# Altium footprint library __ui.PcbLib: 79 footprints (part 2 of 5)
Each footprint in its own frame and in the unit in brackets; x right, y up, seen from the top. Pads: shape width x height; smd on the part's side, far side on the other; paste and mask are expansions set on the pad; w line width, h text height; cw(c..) or ccw(c..) is an arc to the next point about the centre after c.
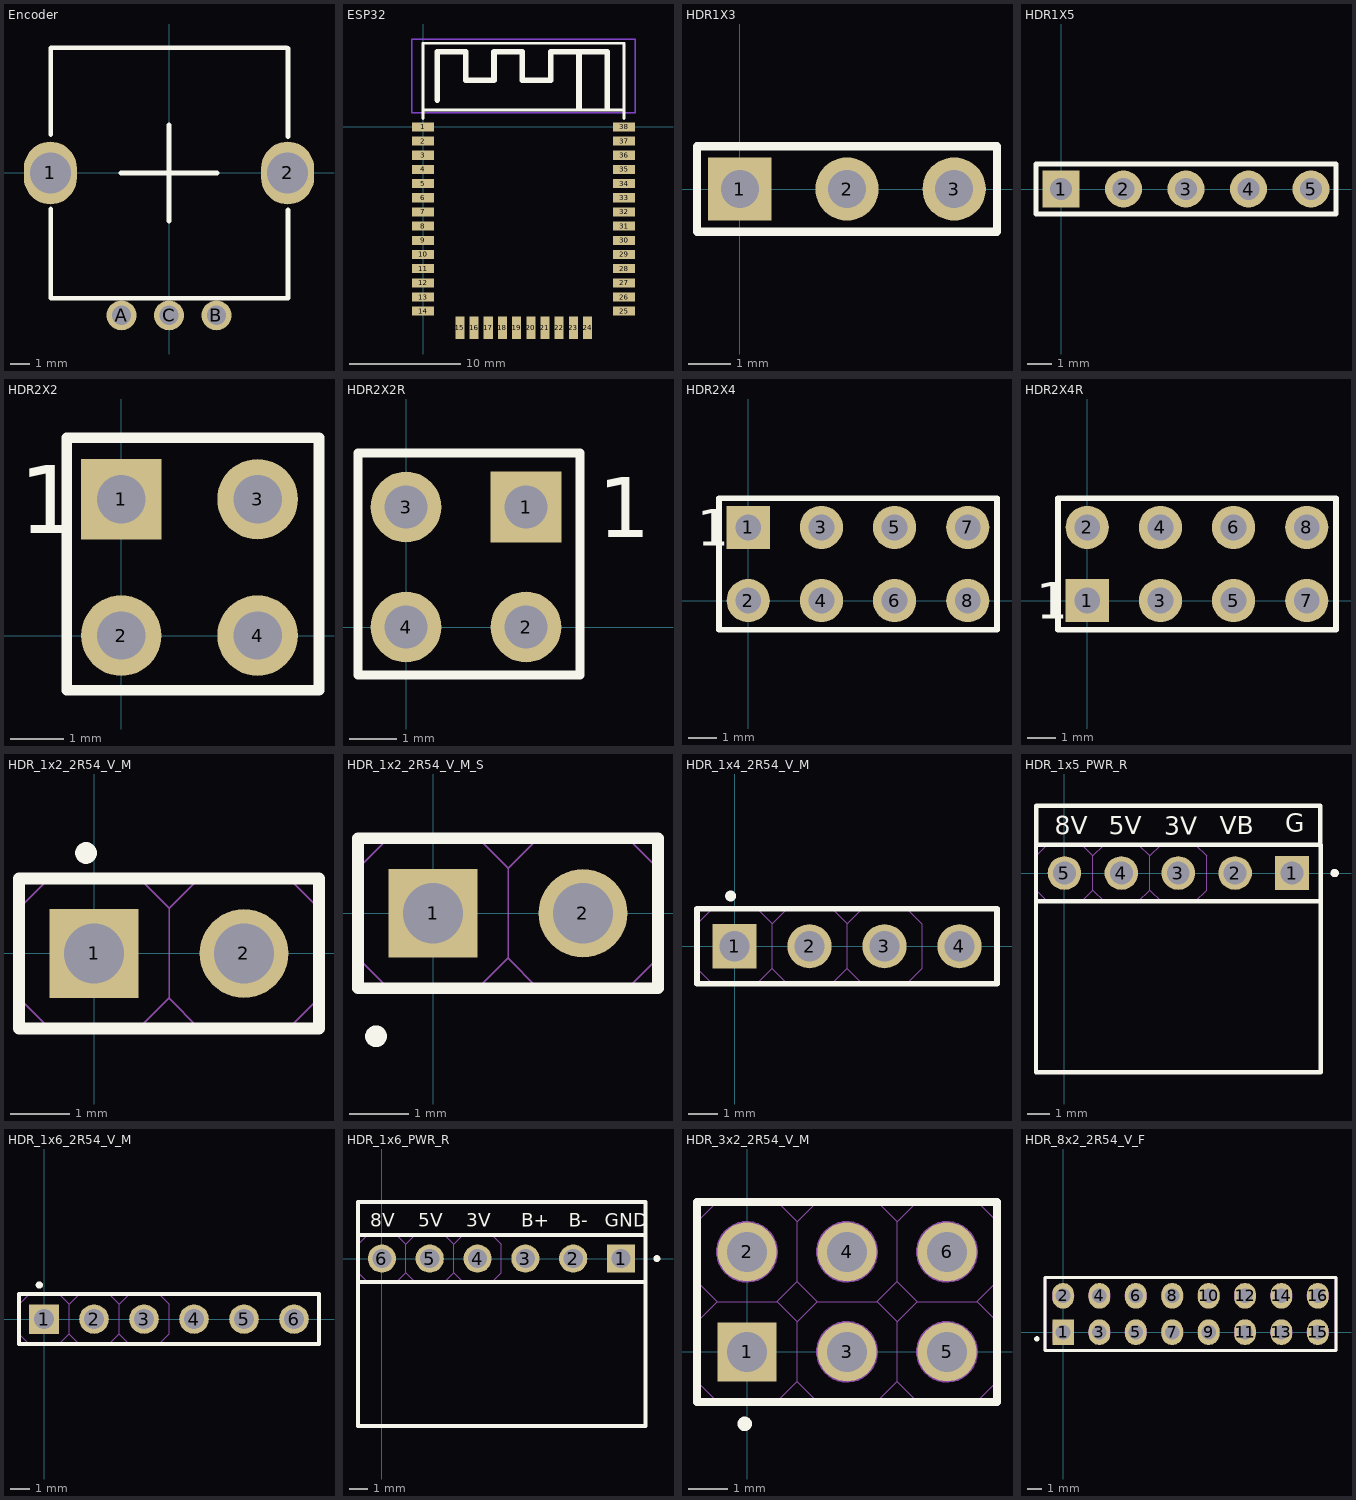
[diagram p1: the footprints below, top view; thin cyan lines are the x and y axes]

## Encoder [mil] "Alps Rotary Encoder"
pads (5):
  oval 110.24x130 hole 85: 1(-246.06,0) 2(246.06,0)
  round 62 hole 40: A(-98.43,-295.28) B(98.43,-295.28) C(0,-295.28)
Top Overlay:
  lines w10: -245.06,-257.8 -245.06,-75 ; -245.06,80 -245.06,257.2 ; -245,-259.84 244.09,-259.84 ; -245,259.84 244.09,259.84 ; -100,0 100,0 ; 0,-100 0,100 ; 246.78,-259.78 246.78,-76.97 ; 246.78,75.22 246.78,258.03

## ESP32 [mm]
pads (38):
  rect 2x0.813 smd: 1(0,0) 2(0,-1.27) 3(0,-2.54) 4(0,-3.81) 5(0,-5.08) 6(0,-6.35) 7(0,-7.62) 8(0,-8.89) 9(0,-10.16) 10(0,-11.43) 11(0,-12.7) 12(0,-13.97) 13(0,-15.24) 14(0,-16.51) 25(18,-16.51) 26(18,-15.24) 27(18,-13.97) 28(18,-12.7) 29(18,-11.43) 30(18,-10.16) 31(18,-8.89) 32(18,-7.62) 33(18,-6.35) 34(18,-5.08) 35(18,-3.81) 36(18,-2.54) 37(18,-1.27) 38(18,0)
  rect 0.813x2 smd: 15(3.3,-18) 16(4.57,-18) 17(5.84,-18) 18(7.11,-18) 19(8.38,-18) 20(9.65,-18) 21(10.92,-18) 22(12.19,-18) 23(13.46,-18) 24(14.73,-18)
Top Layer keep-out:
  lines w0.127: -1.016,1.27 -1.016,7.874 19.024,7.866 19.024,1.262 -1.016,1.27
Bottom Layer keep-out:
  lines w0.127: -1.017,1.27 19.024,1.262 19.024,7.866 -1.016,7.874 -1.017,1.27
Top Overlay:
  lines w0.254: 0,0.762 0,1.5 ; 18,0.762 18,1.5 ; 0,1.5 0,7.5 18,7.5 18,1.5 ; 0,1.5 18,1.5
  lines w0.508: 1.27,2.413 1.27,6.731 3.81,6.731 3.81,4.191 6.35,4.191 6.35,6.731 8.89,6.731 8.89,4.191 11.43,4.191 11.43,6.731 13.97,6.731 ; 13.97,1.651 13.97,6.731 ; 16.51,1.651 16.51,6.731 13.97,6.731
Keep-Out Layer:
  region: -3.81,6.985

## HDR1X3 [mm] "Connector; Header; 3 Position"
pads (3):
  rect 1.5x1.5 hole 0.9: 1(0,0)
  round 1.5 hole 0.9: 2(2.54,0) 3(5.08,0)
Top Overlay:
  lines w0.2: -1.016,-1.016 6.096,-1.016 6.096,1.016 -1.016,1.016 -1.016,-1.016

## HDR1X5 [mm] "Connector; Header; 5 Position"
pads (5):
  rect 1.5x1.5 hole 0.9: 1(0,0)
  round 1.5 hole 0.9: 2(2.54,0) 3(5.08,0) 4(7.62,0) 5(10.16,0)
Top Overlay:
  lines w0.2: -1.016,-1.016 -1.016,1.016 11.176,1.016 11.176,-1.016 -1.016,-1.016

## HDR2X2 [mm] "Connector; Header; 2x2 Position"
pads (4):
  rect 1.5x1.5 hole 0.9: 1(0,2.54)
  round 1.5 hole 0.9: 2(0,0) 3(2.54,2.54) 4(2.54,0)
Top Overlay:
  lines w0.2: -1.016,-1.016 -1.016,3.683 3.683,3.683 3.683,-1.016 -1.016,-1.016
  text "1" at -1.905,1.905 h1.27

## HDR2X2R [mm] "Connector; Header; 2x2 Position"
pads (4):
  rect 1.5x1.5 hole 0.9: 1(2.54,2.54)
  round 1.5 hole 0.9: 2(2.54,0) 3(0,2.54) 4(0,0)
Top Overlay:
  lines w0.2: -1.016,-1.016 3.683,-1.016 3.683,3.683 -1.016,3.683 -1.016,-1.016
  text "1" at 4.064,1.905 h1.27

## HDR2X4 [mm] "Connector; Header; 4x2 Position"
pads (8):
  rect 1.5x1.5 hole 0.9: 1(0,2.54)
  round 1.5 hole 0.9: 2(0,0) 3(2.54,2.54) 4(2.54,0) 5(5.08,2.54) 6(5.08,0) 7(7.62,2.54) 8(7.62,0)
Top Overlay:
  lines w0.2: -1.016,-1.016 -1.016,3.556 8.636,3.556 8.636,-1.016 -1.016,-1.016
  text "1" at -1.778,1.905 h1.27

## HDR2X4R [mm] "Connector; Header; 4x2 Position"
pads (8):
  rect 1.5x1.5 hole 0.9: 1(0,0)
  round 1.5 hole 0.9: 2(0,2.54) 3(2.54,0) 4(2.54,2.54) 5(5.08,0) 6(5.08,2.54) 7(7.62,0) 8(7.62,2.54)
Top Overlay:
  lines w0.2: -1.016,-1.016 8.636,-1.016 8.636,3.556 -1.016,3.556 -1.016,-1.016
  text "1" at -1.778,-0.635 h1.27

## HDR_1x2_2R54_V_M [mm] "Male Header, Pitch 2.54mm, 4x1 Position, Mated Height 6mm, Tail Length 3mm"
height 6
pads (2):
  rect 1.5x1.5 hole 1.02: 1(0,0)
  round 1.5 hole 1.02: 2(2.54,0)
Top Overlay:
  circle w0.25: c-0.135,1.702 r0.059
  lines w0.2: -1.27,-1.27 -1.27,1.27 3.81,1.27 3.81,-1.27 -1.27,-1.27
Mechanical 13:
  lines w0.025: 3.81,-0.762 3.302,-1.27 ; 3.81,0.762 3.302,1.27 1.778,1.27 1.27,0.762 ; -1.27,-0.762 -1.27,0.762 ; -1.27,-0.762 -1.27,0.762 ; -1.27,-0.762 -0.762,-1.27 ; -1.27,0.762 -0.762,1.27 0.762,1.27 1.27,0.762 ; -0.762,-1.27 0.762,-1.27 ; -0.762,-1.27 0.762,-1.27 ; 0.762,-1.27 1.27,-0.762 ; 1.27,-0.762 1.27,0.762 ; 1.27,-0.762 1.27,0.762 ; 1.27,-0.762 1.27,0.762 ; 1.27,-0.762 1.27,0.762 ; 1.27,-0.762 1.778,-1.27 ; 1.778,-1.27 3.302,-1.27 ; 1.778,-1.27 3.302,-1.27
3D body: height 2.54, standoff 0, extent -1.27,-1.27 1.27,1.27
3D body: height 9, standoff -10, extent -0.35,-0.349 0.347,0.349
3D body: height 2.54, standoff 0, extent 1.27,-1.27 3.81,1.27
3D body: height 9, standoff -10, extent 2.19,-0.349 2.887,0.349

## HDR_1x2_2R54_V_M_S [mm] "Male Header, Pitch 2.54mm, 4x1 Position, Mated Height 6mm, Tail Length 3mm"
height 6
pads (2):
  rect 1.5x1.5 hole 1.02: 1(0,0)
  round 1.5 hole 1.02: 2(2.54,0)
Top Overlay:
  circle w0.25: c-0.965,-2.083 r0.059
  lines w0.2: -1.27,-1.27 -1.27,1.27 3.81,1.27 3.81,-1.27 -1.27,-1.27
Mechanical 13:
  lines w0.025: 3.81,-0.762 3.302,-1.27 ; 3.81,0.762 3.302,1.27 1.778,1.27 1.27,0.762 ; -1.27,-0.762 -1.27,0.762 ; -1.27,-0.762 -1.27,0.762 ; -1.27,-0.762 -0.762,-1.27 ; -1.27,0.762 -0.762,1.27 0.762,1.27 1.27,0.762 ; -0.762,-1.27 0.762,-1.27 ; -0.762,-1.27 0.762,-1.27 ; 0.762,-1.27 1.27,-0.762 ; 1.27,-0.762 1.27,0.762 ; 1.27,-0.762 1.27,0.762 ; 1.27,-0.762 1.27,0.762 ; 1.27,-0.762 1.27,0.762 ; 1.27,-0.762 1.778,-1.27 ; 1.778,-1.27 3.302,-1.27 ; 1.778,-1.27 3.302,-1.27
3D body: height 2.54, standoff 0, extent -1.27,-1.27 1.27,1.27
3D body: height 9, standoff -3, extent -0.35,-0.349 0.347,0.349
3D body: height 2.54, standoff 0, extent 1.27,-1.27 3.81,1.27
3D body: height 9, standoff -3, extent 2.19,-0.349 2.887,0.349

## HDR_1x4_2R54_V_M [mm] "Male Header, Pitch 2.54mm, 4x1 Position, Mated Height 6mm, Tail Length 3mm"
height 6
pads (4):
  rect 1.5x1.5 hole 1.02: 1(0,0)
  round 1.5 hole 1.02: 2(2.54,0) 3(5.08,0) 4(7.62,0)
Top Overlay:
  circle w0.25: c-0.135,1.702 r0.059
  lines w0.2: 8.865,1.27 -1.27,1.27 -1.27,-1.27 8.89,-1.27 8.89,1.27
Mechanical 13:
  lines w0.025: -1.27,-0.762 -0.762,-1.27 ; -1.27,-0.762 -1.27,0.762 ; -1.27,-0.762 -1.27,0.762 ; -1.27,0.762 -0.762,1.27 0.762,1.27 1.27,0.762 ; -0.762,-1.27 0.762,-1.27 ; -0.762,-1.27 0.762,-1.27 ; 0.762,-1.27 1.27,-0.762 ; 1.27,-0.762 1.778,-1.27 ; 1.27,-0.762 1.27,0.762 ; 1.27,-0.762 1.27,0.762 ; 1.27,-0.762 1.27,0.762 ; 1.27,-0.762 1.27,0.762 ; 1.27,0.762 1.778,1.27 3.302,1.27 3.81,0.762 ; 1.778,-1.27 3.302,-1.27 ; 1.778,-1.27 3.302,-1.27 ; 3.302,-1.27 3.81,-0.762 ; 3.81,-0.762 4.318,-1.27 ; 3.81,-0.762 3.81,0.762 ; 3.81,-0.762 3.81,0.762 ; 3.81,-0.762 3.81,0.762 ; 3.81,-0.762 3.81,0.762 ; 3.81,0.762 4.318,1.27 5.842,1.27 6.35,0.762 ; 4.318,-1.27 5.842,-1.27 ; 4.318,-1.27 5.842,-1.27 ; 5.842,-1.27 6.35,-0.762 ; 6.35,-0.762 6.35,0.762 ; 6.35,-0.762 6.35,0.762
3D body: height 2.54, standoff 0, extent 6.35,-1.27 8.89,1.27
3D body: height 9, standoff -2.54, extent 7.27,-0.349 7.967,0.349
3D body: height 9, standoff -2.54, extent 4.73,-0.349 5.427,0.349
3D body: height 2.54, standoff 0, extent 3.81,-1.27 6.35,1.27
3D body: height 9, standoff -2.54, extent 2.19,-0.349 2.887,0.349
3D body: height 2.54, standoff 0, extent 1.27,-1.27 3.81,1.27
3D body: height 9, standoff -2.54, extent -0.35,-0.349 0.347,0.349
3D body: height 2.54, standoff 0, extent -1.27,-1.27 1.27,1.27

## HDR_1x5_PWR_R [mm] "Male Header, Pitch 2.54mm, 5x1 Position, 90deg"
height 6
pads (5):
  rect 1.5x1.5 hole 1.02: 1(10.16,0)
  round 1.5 hole 1.02: 2(7.62,0) 3(5.08,0) 4(2.54,0) 5(0,0)
Top Overlay:
  circle w0.25: c12.065,0 r0.059
  lines w0.2: -1.25,1.25 -1.266,1.266 -1.266,3 11.427,3 11.427,1.293 ; 11.43,-1.27 -1.27,-1.27 ; -1.27,-1.27 -1.27,-8.89 11.436,-8.89 11.436,-3.804 11.436,1.27 -1.27,1.27 -1.27,-1.27
  text "VB" at 6.934,1.727 h0.81
  text "3V" at 4.453,1.703 h0.81
  text "5V" at 1.981,1.727 h0.81
  text "8V" at -0.432,1.727 h0.81
  text "G" at 9.855,1.854 h0.81
Mechanical 13:
  lines w0.025: -1.27,-0.762 -0.762,-1.27 ; -1.27,-0.762 -1.27,0.762 ; -1.27,-0.762 -1.27,0.762 ; -1.27,0.762 -0.762,1.27 0.762,1.27 1.27,0.762 ; -0.762,-1.27 0.762,-1.27 ; -0.762,-1.27 0.762,-1.27 ; 0.762,-1.27 1.27,-0.762 ; 1.27,-0.762 1.778,-1.27 ; 1.27,-0.762 1.27,0.762 ; 1.27,-0.762 1.27,0.762 ; 1.27,-0.762 1.27,0.762 ; 1.27,-0.762 1.27,0.762 ; 1.27,0.762 1.778,1.27 3.302,1.27 3.81,0.762 ; 1.778,-1.27 3.302,-1.27 ; 1.778,-1.27 3.302,-1.27 ; 3.302,-1.27 3.81,-0.762 ; 3.81,-0.762 4.318,-1.27 ; 3.81,-0.762 3.81,0.762 ; 3.81,-0.762 3.81,0.762 ; 3.81,-0.762 3.81,0.762 ; 3.81,-0.762 3.81,0.762 ; 3.81,0.762 4.318,1.27 5.842,1.27 6.35,0.762 ; 4.318,-1.27 5.842,-1.27 ; 4.318,-1.27 5.842,-1.27 ; 5.842,-1.27 6.35,-0.762 ; 6.35,-0.762 6.35,0.762 ; 6.35,-0.762 6.35,0.762
3D body: height 2.54, standoff 0, extent 8.89,-1.27 11.43,1.27
3D body: height 9, standoff -2.54, extent 9.81,-0.349 10.507,0.349
3D body: height 2.54, standoff 0, extent 6.35,-1.27 8.89,1.27
3D body: height 9, standoff -2.54, extent 7.27,-0.349 7.967,0.349
3D body: height 9, standoff -2.54, extent 4.73,-0.349 5.427,0.349
3D body: height 2.54, standoff 0, extent 3.81,-1.27 6.35,1.27
3D body: height 9, standoff -2.54, extent 2.19,-0.349 2.887,0.349
3D body: height 2.54, standoff 0, extent 1.27,-1.27 3.81,1.27
3D body: height 9, standoff -2.54, extent -0.35,-0.349 0.347,0.349
3D body: height 2.54, standoff 0, extent -1.27,-1.27 1.27,1.27

## HDR_1x6_2R54_V_M [mm] "Male Header, Pitch 2.54mm, 6x1 Position, Mated Height 6mm, Tail Length 3mm"
height 6
pads (6):
  rect 1.5x1.5 hole 1.02: 1(0,0)
  round 1.5 hole 1.02: 2(2.54,0) 3(5.08,0) 4(7.62,0) 5(10.16,0) 6(12.7,0)
Top Overlay:
  circle w0.25: c-0.236,1.727 r0.059
  lines w0.2: 13.945,-1.27 -1.27,-1.27 -1.27,1.27 13.945,1.27 ; 13.97,-1.27 13.97,1.27
Mechanical 13:
  lines w0.025: -1.27,-0.762 -0.762,-1.27 ; -1.27,-0.762 -1.27,0.762 ; -1.27,-0.762 -1.27,0.762 ; -1.27,0.762 -0.762,1.27 0.762,1.27 1.27,0.762 ; -0.762,-1.27 0.762,-1.27 ; -0.762,-1.27 0.762,-1.27 ; 0.762,-1.27 1.27,-0.762 ; 1.27,-0.762 1.778,-1.27 ; 1.27,-0.762 1.27,0.762 ; 1.27,-0.762 1.27,0.762 ; 1.27,-0.762 1.27,0.762 ; 1.27,-0.762 1.27,0.762 ; 1.27,0.762 1.778,1.27 3.302,1.27 3.81,0.762 ; 1.778,-1.27 3.302,-1.27 ; 1.778,-1.27 3.302,-1.27 ; 3.302,-1.27 3.81,-0.762 ; 3.81,-0.762 4.318,-1.27 ; 3.81,-0.762 3.81,0.762 ; 3.81,-0.762 3.81,0.762 ; 3.81,-0.762 3.81,0.762 ; 3.81,-0.762 3.81,0.762 ; 3.81,0.762 4.318,1.27 5.842,1.27 6.35,0.762 ; 4.318,-1.27 5.842,-1.27 ; 4.318,-1.27 5.842,-1.27 ; 5.842,-1.27 6.35,-0.762 ; 6.35,-0.762 6.35,0.762 ; 6.35,-0.762 6.35,0.762
3D body: height 2.54, standoff 0, extent 11.43,-1.27 13.97,1.27
3D body: height 9, standoff -2.54, extent 12.35,-0.349 13.047,0.349
3D body: height 2.54, standoff 0, extent 8.89,-1.27 11.43,1.27
3D body: height 9, standoff -2.54, extent 9.81,-0.349 10.507,0.349
3D body: height 2.54, standoff 0, extent 6.35,-1.27 8.89,1.27
3D body: height 9, standoff -2.54, extent 7.27,-0.349 7.967,0.349
3D body: height 9, standoff -2.54, extent 4.73,-0.349 5.427,0.349
3D body: height 2.54, standoff 0, extent 3.81,-1.27 6.35,1.27
3D body: height 9, standoff -2.54, extent 2.19,-0.349 2.887,0.349
3D body: height 2.54, standoff 0, extent 1.27,-1.27 3.81,1.27
3D body: height 9, standoff -2.54, extent -0.35,-0.349 0.347,0.349
3D body: height 2.54, standoff 0, extent -1.27,-1.27 1.27,1.27

## HDR_1x6_PWR_R [mm] "Male Header, Pitch 2.54mm, 6x1 Position, 90deg"
height 6
pads (6):
  rect 1.5x1.5 hole 1.02: 1(12.7,0)
  round 1.5 hole 1.02: 2(10.16,0) 3(7.62,0) 4(5.08,0) 5(2.54,0) 6(0,0)
Top Overlay:
  circle w0.25: c14.605,0 r0.059
  lines w0.2: -1.27,-1.25 14,-1.25 ; -1.25,1.25 -1.266,1.266 -1.266,3 14,3 14,1.293 ; -1.27,-8.89 -1.27,-1.27 -1.27,1.25 14,1.25 14,-3.369 14,-8.89 -1.27,-8.89
  text "B-" at 9.931,1.676 h0.71
  text "3V" at 4.47,1.676 h0.71
  text "5V" at 1.93,1.676 h0.71
  text "8V" at -0.61,1.676 h0.71
  text "GND" at 11.836,1.676 h0.71
  text "B+" at 7.391,1.676 h0.71
Mechanical 13:
  lines w0.025: -1.27,-0.762 -0.762,-1.27 ; -1.27,-0.762 -1.27,0.762 ; -1.27,-0.762 -1.27,0.762 ; -1.27,0.762 -0.762,1.27 0.762,1.27 1.27,0.762 ; -0.762,-1.27 0.762,-1.27 ; -0.762,-1.27 0.762,-1.27 ; 0.762,-1.27 1.27,-0.762 ; 1.27,-0.762 1.778,-1.27 ; 1.27,-0.762 1.27,0.762 ; 1.27,-0.762 1.27,0.762 ; 1.27,-0.762 1.27,0.762 ; 1.27,-0.762 1.27,0.762 ; 1.27,0.762 1.778,1.27 3.302,1.27 3.81,0.762 ; 1.778,-1.27 3.302,-1.27 ; 1.778,-1.27 3.302,-1.27 ; 3.302,-1.27 3.81,-0.762 ; 3.81,-0.762 4.318,-1.27 ; 3.81,-0.762 3.81,0.762 ; 3.81,-0.762 3.81,0.762 ; 3.81,-0.762 3.81,0.762 ; 3.81,-0.762 3.81,0.762 ; 3.81,0.762 4.318,1.27 5.842,1.27 6.35,0.762 ; 4.318,-1.27 5.842,-1.27 ; 4.318,-1.27 5.842,-1.27 ; 5.842,-1.27 6.35,-0.762 ; 6.35,-0.762 6.35,0.762 ; 6.35,-0.762 6.35,0.762
3D body: height 2.54, standoff 0, extent 11.43,-1.27 13.97,1.27
3D body: height 2.54, standoff 0, extent 8.89,-1.27 11.43,1.27
3D body: height 9, standoff -2.54, extent 9.81,-0.349 10.507,0.349
3D body: height 2.54, standoff 0, extent 6.35,-1.27 8.89,1.27
3D body: height 9, standoff -2.54, extent 7.27,-0.349 7.967,0.349
3D body: height 9, standoff -2.54, extent 4.73,-0.349 5.427,0.349
3D body: height 2.54, standoff 0, extent 3.81,-1.27 6.35,1.27
3D body: height 9, standoff -2.54, extent 2.19,-0.349 2.887,0.349
3D body: height 2.54, standoff 0, extent 1.27,-1.27 3.81,1.27
3D body: height 9, standoff -2.54, extent -0.35,-0.349 0.347,0.349
3D body: height 2.54, standoff 0, extent -1.27,-1.27 1.27,1.27

## HDR_3x2_2R54_V_M [mm] "Male Header, Pitch 2.54mm, 2x3 Position, Mated Height 6mm, Tail Length 3mm"
height 6
pads (6):
  rect 1.5x1.5 hole 1.02: 1(0,0)
  round 1.5 hole 1.02: 2(0,2.54) 3(2.54,0) 4(2.54,2.54) 5(5.08,0) 6(5.08,2.54)
Top Overlay:
  circle w0.25: c-0.059,-1.829 r0.059
  lines w0.2: -1.27,-1.27 6.35,-1.27 6.35,3.81 -1.27,3.81 -1.27,-1.27
Mechanical 7:
  circle w0.2: c0,2.54 r0.684
  circle w0.2: c2.54,2.54 r0.684
  circle w0.2: c5.08,2.54 r0.684
  circle w0.2: c5.08,0 r0.684
  circle w0.2: c2.54,0 r0.684
  lines w0.2: -1.27,-1.27 6.35,-1.27 6.35,3.81 -1.27,3.81 -1.27,-1.27 ; -0.635,-0.635 0.635,-0.635 0.635,0.635 -0.635,0.635 -0.635,-0.635
Mechanical 13:
  lines w0.025: 6.35,-0.762 5.842,-1.27 ; 6.35,0.762 5.842,1.27 ; 6.35,1.778 5.842,1.27 ; 6.35,3.302 5.842,3.81 4.318,3.81 3.81,3.302 ; -1.27,-0.762 -0.762,-1.27 ; -1.27,-0.762 -1.27,0.762 ; -1.27,-0.762 -1.27,0.762 ; -1.27,0.762 -0.762,1.27 ; -1.27,1.778 -1.27,3.302 ; -1.27,1.778 -1.27,3.302 ; -1.27,1.778 -0.762,1.27 ; -1.27,3.302 -0.762,3.81 0.762,3.81 1.27,3.302 ; -0.762,-1.27 0.762,-1.27 ; -0.762,-1.27 0.762,-1.27 ; -0.762,1.27 0.762,1.27 ; -0.762,1.27 0.762,1.27 ; -0.762,1.27 0.762,1.27 ; 0.762,-1.27 1.27,-0.762 ; 0.762,1.27 1.27,1.778 ; 0.762,1.27 1.27,0.762 ; 1.27,-0.762 1.778,-1.27 ; 1.27,-0.762 1.27,0.762 ; 1.27,-0.762 1.27,0.762 ; 1.27,-0.762 1.27,0.762 ; 1.27,-0.762 1.27,0.762 ; 1.27,0.762 1.778,1.27 ; 1.27,1.778 1.27,3.302 ; 1.27,1.778 1.27,3.302 ; 1.27,1.778 1.27,3.302 ; 1.27,1.778 1.27,3.302 ; 1.27,1.778 1.778,1.27 ; 1.27,3.302 1.778,3.81 3.302,3.81 3.81,3.302 ; 1.778,-1.27 3.302,-1.27 ; 1.778,-1.27 3.302,-1.27 ; 1.778,1.27 3.302,1.27 ; 1.778,1.27 3.302,1.27 ; 1.778,1.27 3.302,1.27 ; 3.302,-1.27 3.81,-0.762 ; 3.302,1.27 3.81,1.778 ; 3.302,1.27 3.81,0.762 ; 3.81,-0.762 4.318,-1.27 ; 3.81,-0.762 3.81,0.762 ; 3.81,-0.762 3.81,0.762 ; 3.81,-0.762 3.81,0.762 ; 3.81,-0.762 3.81,0.762 ; 3.81,0.762 4.318,1.27 ; 3.81,1.778 3.81,3.302 ; 3.81,1.778 3.81,3.302 ; 3.81,1.778 3.81,3.302 ; 3.81,1.778 3.81,3.302 ; 3.81,1.778 4.318,1.27 ; 4.318,-1.27 5.842,-1.27 ; 4.318,-1.27 5.842,-1.27 ; 4.318,1.27 5.842,1.27 ; 4.318,1.27 5.842,1.27 ; 4.318,1.27 5.842,1.27
3D body: height 9, standoff -2.54, extent 4.731,2.191 5.429,2.889
3D body: height 9, standoff -2.54, extent 2.191,2.191 2.889,2.889
3D body: height 9, standoff -2.54, extent -0.349,2.191 0.349,2.889
3D body: height 9, standoff -2.54, extent 4.731,-0.349 5.429,0.349
3D body: height 9, standoff -2.54, extent 2.191,-0.349 2.889,0.349
3D body: height 9, standoff -2.54, extent -0.349,-0.349 0.349,0.349
3D body: height 2.54, standoff 0, extent -1.27,1.27 1.27,3.81
3D body: height 2.54, standoff 0, extent 1.27,1.27 3.81,3.81
3D body: height 2.54, standoff 0, extent 3.81,1.27 6.35,3.81
3D body: height 2.54, standoff 0, extent 3.81,-1.27 6.35,1.27
3D body: height 2.54, standoff 0, extent 1.27,-1.27 3.81,1.27
3D body: height 2.54, standoff 0, extent -1.27,-1.27 1.27,1.27

## HDR_8x2_2R54_V_F [mm] "Female Header, Pitch 2.54mm, 2x8 Position, Mated Height 6mm, Tail Length 3mm"
height 6
pads (16):
  rect 1.5x1.8 hole 1.02: 1(0,0)
  oval 1.5x1.8 hole 1.02: 2(0,2.54) 3(2.54,0) 4(2.54,2.54) 5(5.08,0) 6(5.08,2.54) 7(7.62,0) 8(7.62,2.54) 9(10.16,0) 10(10.16,2.54) 11(12.7,0) 12(12.7,2.54) 13(15.24,0) 14(15.24,2.54) 15(17.78,0) 16(17.78,2.54)
Top Overlay:
  circle w0.25: c-1.829,-0.465 r0.059
  lines w0.2: -1.27,-1.27 -1.27,3.81 19.05,3.81 19.05,-1.27 -1.27,-1.27
Mechanical 7:
  circle w0.2: c15.24,2.54 r0.684
  circle w0.2: c17.78,2.54 r0.684
  circle w0.2: c17.78,0 r0.684
  circle w0.2: c15.24,0 r0.684
  circle w0.2: c2.54,0 r0.684
  circle w0.2: c5.08,0 r0.684
  circle w0.2: c7.62,0 r0.684
  circle w0.2: c10.16,0 r0.684
  circle w0.2: c12.7,0 r0.684
  circle w0.2: c12.7,2.54 r0.684
  circle w0.2: c10.16,2.54 r0.684
  circle w0.2: c7.62,2.54 r0.684
  circle w0.2: c5.08,2.54 r0.684
  circle w0.2: c2.54,2.54 r0.684
  circle w0.2: c0,2.54 r0.684
  lines w0.2: -1.27,-1.27 -1.27,3.81 19.05,3.81 19.05,-1.27 -1.27,-1.27 ; -0.635,-0.635 -0.635,0.635 0.635,0.635 0.635,-0.635 -0.635,-0.635
3D body: height 2.54, standoff -10, extent 14.891,-0.349 15.589,0.349
3D body: height 8.64, standoff 0, extent 13.972,-1.27 16.512,1.27
3D body: height 2.54, standoff -10, extent 14.891,2.191 15.589,2.889
3D body: height 8.64, standoff 0, extent 13.972,1.27 16.512,3.81
3D body: height 2.54, standoff -10, extent 17.431,2.191 18.129,2.889
3D body: height 8.64, standoff 0, extent 16.512,1.27 19.052,3.81
3D body: height 2.54, standoff -10, extent 17.431,-0.349 18.129,0.349
3D body: height 8.64, standoff 0, extent 16.512,-1.27 19.052,1.27
3D body: height 8.64, standoff 0, extent 11.432,-1.27 13.972,1.27
3D body: height 2.54, standoff -10, extent 12.351,-0.349 13.049,0.349
3D body: height 8.64, standoff 0, extent 11.432,1.27 13.972,3.81
3D body: height 2.54, standoff -10, extent 12.351,2.191 13.049,2.889
3D body: height 8.64, standoff 0, extent 8.892,1.27 11.432,3.81
3D body: height 2.54, standoff -10, extent 9.811,2.191 10.509,2.889
3D body: height 8.64, standoff 0, extent 8.892,-1.27 11.432,1.27
3D body: height 2.54, standoff -10, extent 9.811,-0.349 10.509,0.349
3D body: height 8.64, standoff 0, extent 6.352,-1.27 8.892,1.27
3D body: height 2.54, standoff -10, extent 7.271,-0.349 7.969,0.349
3D body: height 8.64, standoff 0, extent 6.352,1.27 8.892,3.81
3D body: height 2.54, standoff -10, extent 7.271,2.191 7.969,2.889
3D body: height 8.64, standoff 0, extent 3.812,-1.27 6.352,1.27
3D body: height 2.54, standoff -10, extent 4.731,-0.349 5.429,0.349
3D body: height 8.64, standoff 0, extent 3.812,1.27 6.352,3.81
3D body: height 2.54, standoff -10, extent 4.731,2.191 5.429,2.889
3D body: height 8.64, standoff 0, extent 1.272,-1.27 3.812,1.27
3D body: height 2.54, standoff -10, extent 2.191,-0.349 2.889,0.349
3D body: height 8.64, standoff 0, extent 1.272,1.27 3.812,3.81
3D body: height 2.54, standoff -10, extent 2.191,2.191 2.889,2.889
3D body: height 8.64, standoff 0, extent -1.268,1.27 1.272,3.81
3D body: height 2.54, standoff -10, extent -0.349,2.191 0.349,2.889
3D body: height 8.64, standoff 0, extent -1.268,-1.27 1.272,1.27
3D body: height 2.54, standoff -10, extent -0.349,-0.349 0.349,0.349